# Altium schematic symbol library VNH5019.SchLib: 1 symbol
Pins are listed as number, name and electrical type; pins without a type are passive.

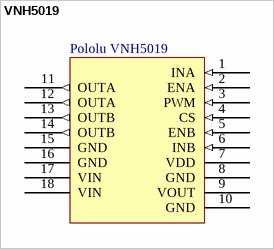
[diagram p0: symbol VNH5019]

## VNH5019
designator ?  (value not drawn)
footprint PCBComponent_1
pins: 1 INA (in), 2 ENA (in), 3 PWM (in), 4 CS (in), 5 ENB (in), 6 INB (in), 7 VDD (power), 8 GND (power), 9 VOUT (power), 10 GND (power), 11 OUTA (out), 12 OUTA (out), 13 OUTB (out), 14 OUTB (out), 15 GND (power), 16 GND (power), 17 VIN (power), 18 VIN (power)
text: Pololu VNH5019